# Altium footprint library RAC05-3.3SK.PcbLib: 1 footprints
Each footprint in its own frame and in the unit in brackets; x right, y up, seen from the top. Pads: shape width x height; smd on the part's side, far side on the other; paste and mask are expansions set on the pad; w line width, h text height; cw(c..) or ccw(c..) is an arc to the next point about the centre after c.
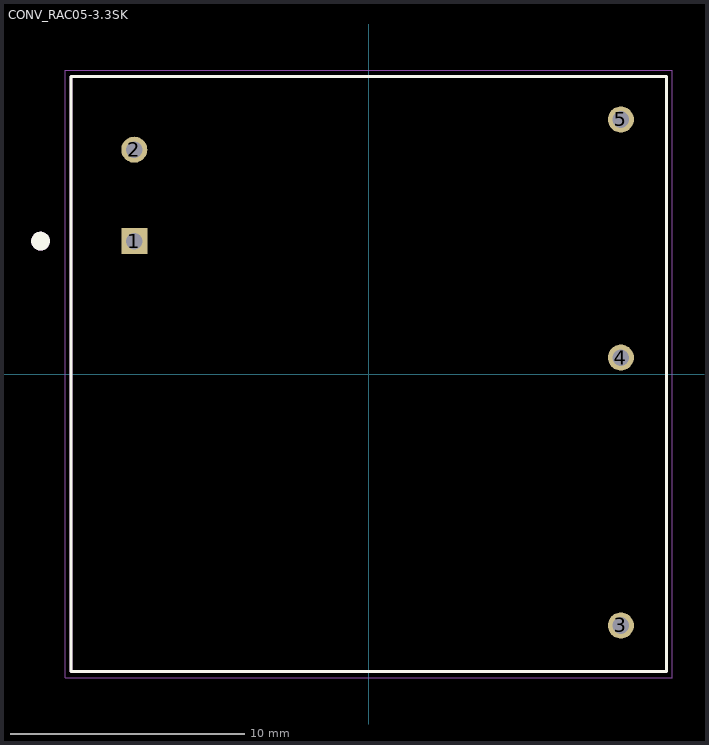
[diagram p0: the footprint, top view; thin cyan lines are the x and y axes]

## CONV_RAC05-3.3SK [mm]
pads (5):
  rect 1.11x1.11 hole 0.71: 1(-10,5.67)
  round 1.11 hole 0.71: 2(-10,9.57) 3(10.76,-10.73) 4(10.76,0.7) 5(10.76,10.86)
Top Overlay:
  circle w0.4: c-14,5.67 r0.2
  lines w0.127: -12.7,-12.7 12.7,-12.7 12.7,12.7 -12.7,12.7 -12.7,-12.7
Mechanical 13:
  circle w0.4: c-14,5.67 r0.2
  lines w0.127: -12.7,-12.7 12.7,-12.7 12.7,12.7 -12.7,12.7 -12.7,-12.7
Mechanical 15:
  lines w0.05: -12.95,-12.95 12.95,-12.95 12.95,12.95 -12.95,12.95 -12.95,-12.95
3D body "RAC05-3.3SK.STEP": height 16.6, standoff -5.03, extent -12.8,-12.8 12.8,12.8